# Altium footprint library Modules.PcbLib: 3 footprints
Each footprint in its own frame and in the unit in brackets; x right, y up, seen from the top. Pads: shape width x height; smd on the part's side, far side on the other; paste and mask are expansions set on the pad; w line width, h text height; cw(c..) or ccw(c..) is an arc to the next point about the centre after c.
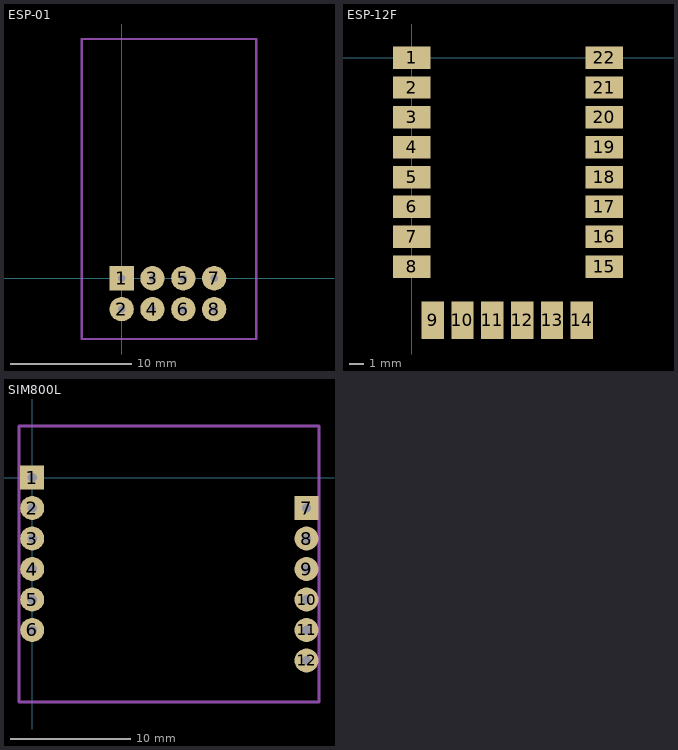
[diagram p0: the footprints below, top view; thin cyan lines are the x and y axes]

## ESP-01 [mm]
pads (8):
  rect 2x2 hole 0.6 paste-2539.97 mask+0: 1(0,0)
  round 2 hole 0.6 paste-2539.97 mask+0: 2(0,-2.54) 3(2.54,0) 4(2.54,-2.54) 5(5.08,0) 6(5.08,-2.54) 7(7.62,0) 8(7.62,-2.54)
Mechanical 1:
  lines w0.2: -3.3,-5 11.1,-5 11.1,19.7 -3.3,19.7 -3.3,-5

## ESP-12F [mm]
pads (22):
  rect 2.5x1.5 smd: 1(0,0) 2(0,-2) 3(0,-4) 4(0,-6) 5(0,-8) 6(0,-10) 7(0,-12) 8(0,-14) 15(12.9,-14) 16(12.9,-12) 17(12.9,-10) 18(12.9,-8) 19(12.9,-6) 20(12.9,-4) 21(12.9,-2) 22(12.9,0)
  rect 1.5x2.5 smd: 9(1.4,-17.6) 10(3.4,-17.6) 11(5.4,-17.6) 12(7.4,-17.6) 13(9.4,-17.6) 14(11.4,-17.6)

## SIM800L [mm]
pads (12):
  rect 2x2 hole 0.762: 1(0,0) 7(22.86,-2.54)
  round 2 hole 0.762: 2(0,-2.54) 3(0,-5.08) 4(0,-7.62) 5(0,-10.16) 6(0,-12.7) 8(22.86,-5.08) 9(22.86,-7.62) 10(22.86,-10.16) 11(22.86,-12.7) 12(22.86,-15.24)
Mechanical 1:
  lines w0.254: -1.1,-18.7 23.9,-18.7 23.9,4.3 -1.1,4.3 -1.1,-18.7